# Altium integrated library LibrairieS2.IntLib: 1 symbol
Pins are listed as number, name and electrical type; pins without a type are passive.

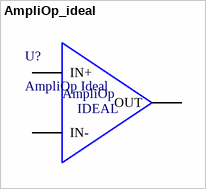
[diagram p0: symbol AmpliOp_ideal]

## AmpliOp_ideal
designator U?, comment AmpliOp Ideal
simulation model ideal (Model Description)
pins: 1 IN+, 2 IN-, 3 OUT
text: AmpliOp; IDEAL